# Altium schematic symbol library SAW12_11_5.Schlib: 1 symbol
Pins are listed as number, name and electrical type; pins without a type are passive.

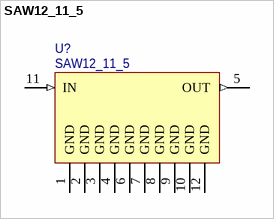
[diagram p0: symbol SAW12_11_5]

## SAW12_11_5
designator U?
SAW IF filter
pins: 1 GND (power), 2 GND (power), 3 GND (power), 4 GND (power), 5 OUT (out), 6 GND (power), 7 GND (power), 8 GND (power), 9 GND (power), 10 GND (power), 11 IN (in), 12 GND (power)
2 alternate drawings of the same symbol